# Altium schematic symbol library Schlib1.SchLib: 5 symbols
Pins are listed as number, name and electrical type; pins without a type are passive.

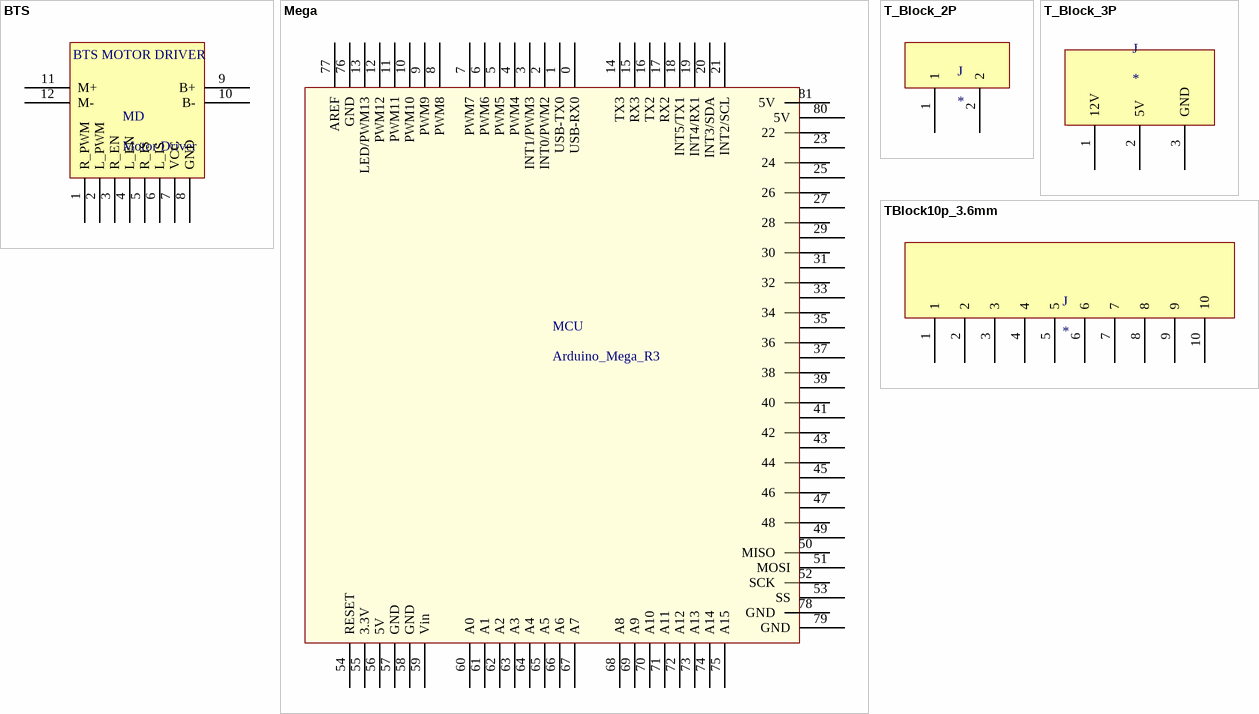
[diagram p0: symbols BTS to TBlock10p_3.6mm]

## BTS
designator MD, comment Motor Driver
footprint PCB_BTS
pins: 1 R_PWM, 2 L_PWM, 3 R_EN, 4 L_EN, 5 R_IS, 6 L_IS, 7 VCC, 8 GND, 9 B+, 10 B-, 11 M+, 12 M-
text: BTS MOTOR DRIVER

## Mega
designator MCU, comment Arduino_Mega_R3
Arduino Mega
footprint PCB_footprint_mega (Arduino_Mega)
pins: 0 USB-RX0, 1 USB-TX0, 2 INT0/PWM2, 3 INT1/PWM3, 4 PWM4, 5 PWM5, 6 PWM6, 7 PWM7, 8 PWM8, 9 PWM9, 10 PWM10, 11 PWM11, 12 PWM12, 13 LED/PWM13, 14 TX3, 15 RX3, 16 TX2, 17 RX2, 18 INT5/TX1, 19 INT4/RX1, 20 INT3/SDA, 21 INT2/SCL, 22, 23, 24, 25, 26, 27, 28, 29, 30, 31, 32, 33, 34, 35, 36, 37, 38, 39, 40, 41, 42, 43, 44, 45, 46, 47, 48, 49, 50 MISO, 51 MOSI, 52 SCK, 53 SS, 54 RESET, 55 3.3V, 56 5V, 57 GND, 58 GND, 59 Vin, 60 A0, 61 A1, 62 A2, 63 A3, 64 A4, 65 A5, 66 A6, 67 A7, 68 A8, 69 A9, 70 A10, 71 A11, 72 A12, 73 A13, 74 A14, 75 A15, 76 GND, 77 AREF, 78 GND, 79 GND, 80 5V, 81 5V

## T_Block_2P
designator J
Terminal
footprint T_Block_2P
pins: 1, 2

## T_Block_3P
designator J
Terminal
footprint T_Block_3P
pins: 1 12V, 2 5V, 3 GND

## TBlock10p_3.6mm
designator J
Terminal
footprint T_block_3.6mm
pins: 1, 2, 3, 4, 5, 6, 7, 8, 9, 10